# EAGLE library part LEVELSHIFTER (library POVPARTS)
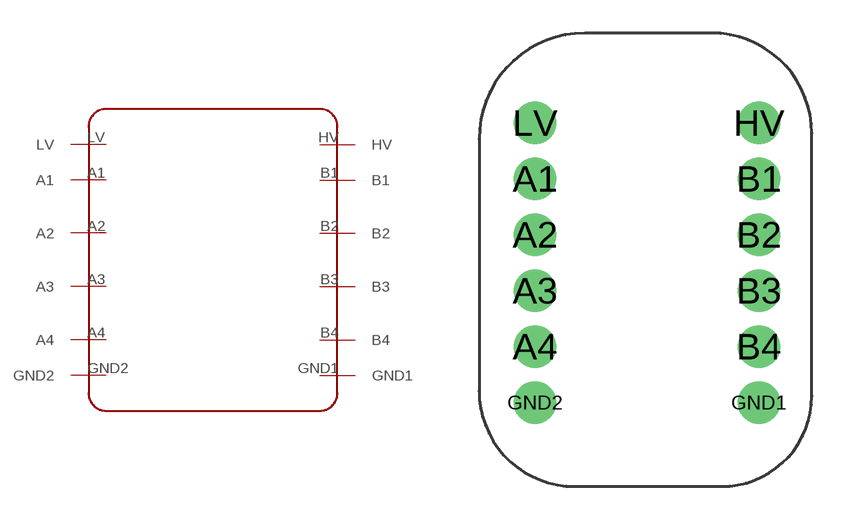
[diagram p1: symbol with the pads of LEVENSHIFTER; footprint LEVENSHIFTER]

Designator prefix -

## LEVELSHIFTER4BI-DIRECTIONAL  [LEVENSHIFTER]
A1  A1
A2  A2
A3  A3
A4  A4
B1  B1
B2  B2
B3  B3
B4  B4
GND1  GND1
GND2  GND2
HV  HV
LV  LV

## Footprint LEVENSHIFTER (pad centres in mm)
drill 0.9 pad 1.93: A1 2.54,13.97; A2 2.54,11.43; A3 2.54,8.89; A4 2.54,6.35; B1 12.7,13.97; B2 12.7,11.43; B3 12.7,8.89; B4 12.7,6.35; GND1 12.7,3.81; GND2 2.54,3.81; HV 12.7,16.51; LV 2.54,16.51